# Altium schematic symbol library BSS138.Schlib: 1 symbol
Pins are listed as number, name and electrical type; pins without a type are passive.

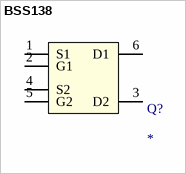
[diagram p0: symbol BSS138]

## BSS138
designator Q?
FET SM NCH 50V 220mA SOT23-3L
footprint PCBComponent_1
pins: 1 S1, 2 G1, 3 D2, 4 S2, 5 G2, 6 D1